# EAGLE library part BLUEGIGA-BLE113 (library FaBo-BT)
Bluegiga BLE113 Bluetooth Bluetooth 4.0 low energy radio Radio Transmit power: +0 dBm Receiver sensitivity: -93 dBm Typical line-of-sight range: 30 - 100 meters Current Consumption TX peak current: 18.2 mA, 14.3 ma (with DC/DC) RX peak current: 17.9 mA Power mode 1: 270 uA Power mode 2: 1 uA Power mode 3: 0.4 uA Certifications Japan: MIC Japan( 007-AB0103)
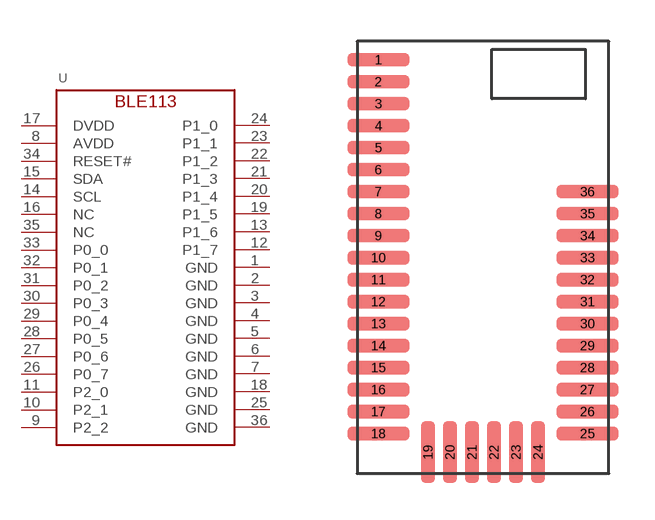
[diagram p1: symbol with the pads of BLUEGIGA-BLE113; footprint BLUEGIGA-BLE113]

Designator prefix U

## BLUEGIGA-BLE113  [BLUEGIGA-BLE113]
1  GND
2  GND
3  GND
4  GND
5  GND
6  GND
7  GND
8  AVDD
9  P2_2
10  P2_1
11  P2_0
12  P1_7
13  P1_6
14  SCL
15  SDA
16  NC
17  DVDD
18  GND
19  P1_5
20  P1_4
21  P1_3
22  P1_2
23  P1_1
24  P1_0
25  GND
26  P0_7
27  P0_6
28  P0_5
29  P0_4
30  P0_3
31  P0_2
32  P0_1
33  P0_0
34  RESET#
35  NC
36  GND

## Footprint BLUEGIGA-BLE113 (pad centres in mm)
Bluegiga BLE113 Bluetooth Bluetooth 4.0 low energy radio Radio Transmit power: +0 dBm Receiver sensitivity: -93 dBm Typical line-of-sight range: 30 - 100 meters Current Consumption TX peak current: 18.2 mA, 14.3 ma (with DC/DC) RX peak current: 17.9 mA Power mode 1: 270 uA Power mode 2: 1 uA Power mode 3: 0.4 uA Certifications Japan: MIC Japan( 007-AB0103)
smd 2.25 x 0.5: 1 -3.8,7.188; 2 -3.8,6.388; 3 -3.8,5.588; 4 -3.8,4.787; 5 -3.8,3.987; 6 -3.8,3.188; 7 -3.8,2.388; 8 -3.8,1.587; 9 -3.8,0.787; 10 -3.8,-0.013; 11 -3.8,-0.812; 12 -3.8,-1.613; 13 -3.8,-2.413; 14 -3.8,-3.212; 15 -3.8,-4.013; 16 -3.8,-4.812; 17 -3.8,-5.612; 18 -3.8,-6.412; 25 3.8,-6.412; 26 3.8,-5.612; 27 3.8,-4.812; 28 3.8,-4.013; 29 3.8,-3.212; 30 3.8,-2.413; 31 3.8,-1.613; 32 3.8,-0.812; 33 3.8,-0.013; 34 3.8,0.787; 35 3.8,1.587; 36 3.8,2.388
smd 0.5 x 2.25: 19 -2,-7.088; 20 -1.2,-7.088; 21 -0.4,-7.088; 22 0.4,-7.088; 23 1.2,-7.088; 24 2,-7.088